# EAGLE library part 74AC161SC (library Fairchild_By_element14_Batch_1)
Synchronous Presettable Binary Counter
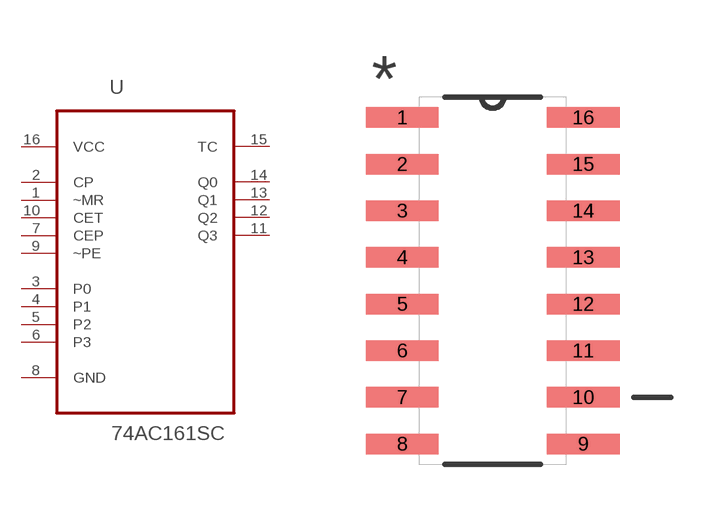
[diagram p17: symbol with the pads of SOIC127P600X175-16N; footprint SOIC127P600X175-16N]

Designator prefix U

## 74AC161SC (MPN: 74AC161SC; OC_FARNELL: -; OC_NEWARK: 83C4200; PACKAGE: SOIC-16; SUPPLIER: Fairchild)  [SOIC127P600X175-16N]
1  ~MR  in
2  CP  in
3  P0  in
4  P1  in
5  P2  in
6  P3  in
7  CEP  in
8  GND  pas
9  ~PE  in
10  CET  in
11  Q3  out
12  Q2  out
13  Q1  out
14  Q0  out
15  TC  out
16  VCC  pwr

## Footprint SOIC127P600X175-16N (pad centres in mm)
smd 1.981 x 0.559: 1 -2.464,4.445; 2 -2.464,3.175; 3 -2.464,1.905; 4 -2.464,0.635; 5 -2.464,-0.635; 6 -2.464,-1.905; 7 -2.464,-3.175; 8 -2.464,-4.445; 9 2.464,-4.445; 10 2.464,-3.175; 11 2.464,-1.905; 12 2.464,-0.635; 13 2.464,0.635; 14 2.464,1.905; 15 2.464,3.175; 16 2.464,4.445